# Altium schematic symbol library SCH - INTERFACE - CAN - ESDCAN01-2BLY.SCHLIB: 1 symbol
Pins are listed as number, name and electrical type; pins without a type are passive.

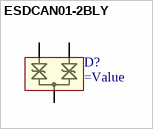
[diagram p0: symbol ESDCAN01-2BLY]

## ESDCAN01-2BLY
designator D?
Automotive dual-line TVS for CAN bus, 25 V
pins: 1, 2, 3